# Altium schematic symbol library LM317EMPX_NOPB.Schlib: 1 symbol
Pins are listed as number, name and electrical type; pins without a type are passive.

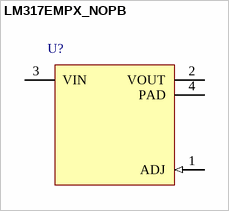
[diagram p0: symbol LM317EMPX_NOPB]

## LM317EMPX_NOPB
designator U?
pins: 1 ADJ (in), 2 VOUT (power), 3 VIN (power), 4 PAD (power)